# EAGLE library part HD6402 (library micro-harris)
MICROCONTROLLER/MEMORY DEVICE
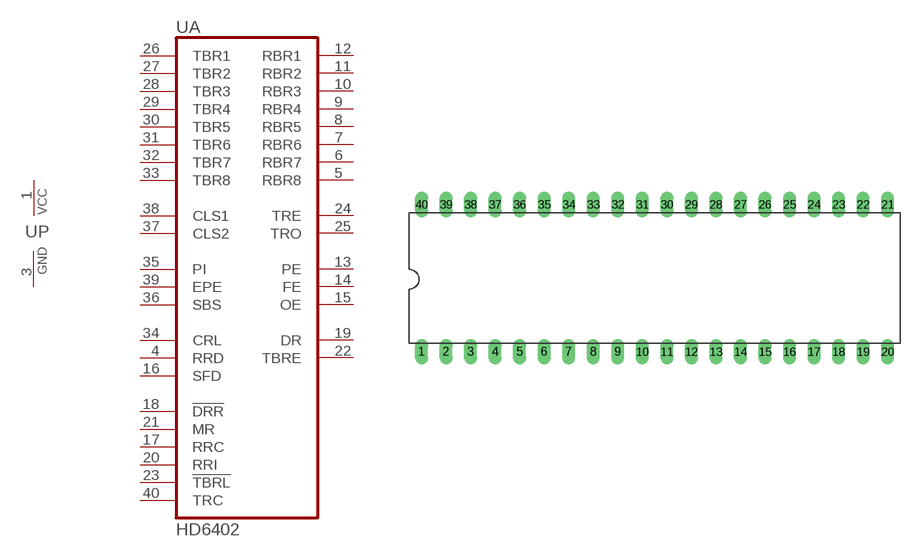
[diagram p2: symbol with the pads of DIL40; footprint DIL40]

Designator prefix U; gates A=HD6402 P=PWRN

## HD6402 (OC_FARNELL: unknown; OC_NEWARK: unknown)  [DIL40]
1  P:VCC  pwr
3  P:GND  pwr
4  A:RRD  in
5  A:RBR8  hiz
6  A:RBR7  hiz
7  A:RBR6  hiz
8  A:RBR5  hiz
9  A:RBR4  hiz
10  A:RBR3  hiz
11  A:RBR2  hiz
12  A:RBR1  hiz
13  A:PE  hiz
14  A:FE  hiz
15  A:OE  hiz
16  A:SFD  in
17  A:RRC  in
18  A:!DRR  in
19  A:DR  hiz
20  A:RRI  in
21  A:MR  in
22  A:TBRE  hiz
23  A:!TBRL  in
24  A:TRE  out
25  A:TRO  out
26  A:TBR1  in
27  A:TBR2  in
28  A:TBR3  in
29  A:TBR4  in
30  A:TBR5  in
31  A:TBR6  in
32  A:TBR7  in
33  A:TBR8  in
34  A:CRL  in
35  A:PI  in
36  A:SBS  in
37  A:CLS2  in
38  A:CLS1  in
39  A:EPE  in
40  A:TRC  in

## Footprint DIL40 (pad centres in mm)
Dual In Line Package
drill 0.813 long: 1 -24.13,-7.62; 2 -21.59,-7.62; 3 -19.05,-7.62; 4 -16.51,-7.62; 5 -13.97,-7.62; 6 -11.43,-7.62; 7 -8.89,-7.62; 8 -6.35,-7.62; 9 -3.81,-7.62; 10 -1.27,-7.62; 11 1.27,-7.62; 12 3.81,-7.62; 13 6.35,-7.62; 14 8.89,-7.62; 15 11.43,-7.62; 16 13.97,-7.62; 17 16.51,-7.62; 18 19.05,-7.62; 19 21.59,-7.62; 20 24.13,-7.62; 21 24.13,7.62; 22 21.59,7.62; 23 19.05,7.62; 24 16.51,7.62; 25 13.97,7.62; 26 11.43,7.62; 27 8.89,7.62; 28 6.35,7.62; 29 3.81,7.62; 30 1.27,7.62; 31 -1.27,7.62; 32 -3.81,7.62; 33 -6.35,7.62; 34 -8.89,7.62; 35 -11.43,7.62; 36 -13.97,7.62; 37 -16.51,7.62; 38 -19.05,7.62; 39 -21.59,7.62; 40 -24.13,7.62